# Altium footprint library LibMain.PCBLIB: 68 footprints (part 2 of 5)
Each footprint in its own frame and in the unit in brackets; x right, y up, seen from the top. Pads: shape width x height; smd on the part's side, far side on the other; paste and mask are expansions set on the pad; w line width, h text height; cw(c..) or ccw(c..) is an arc to the next point about the centre after c.
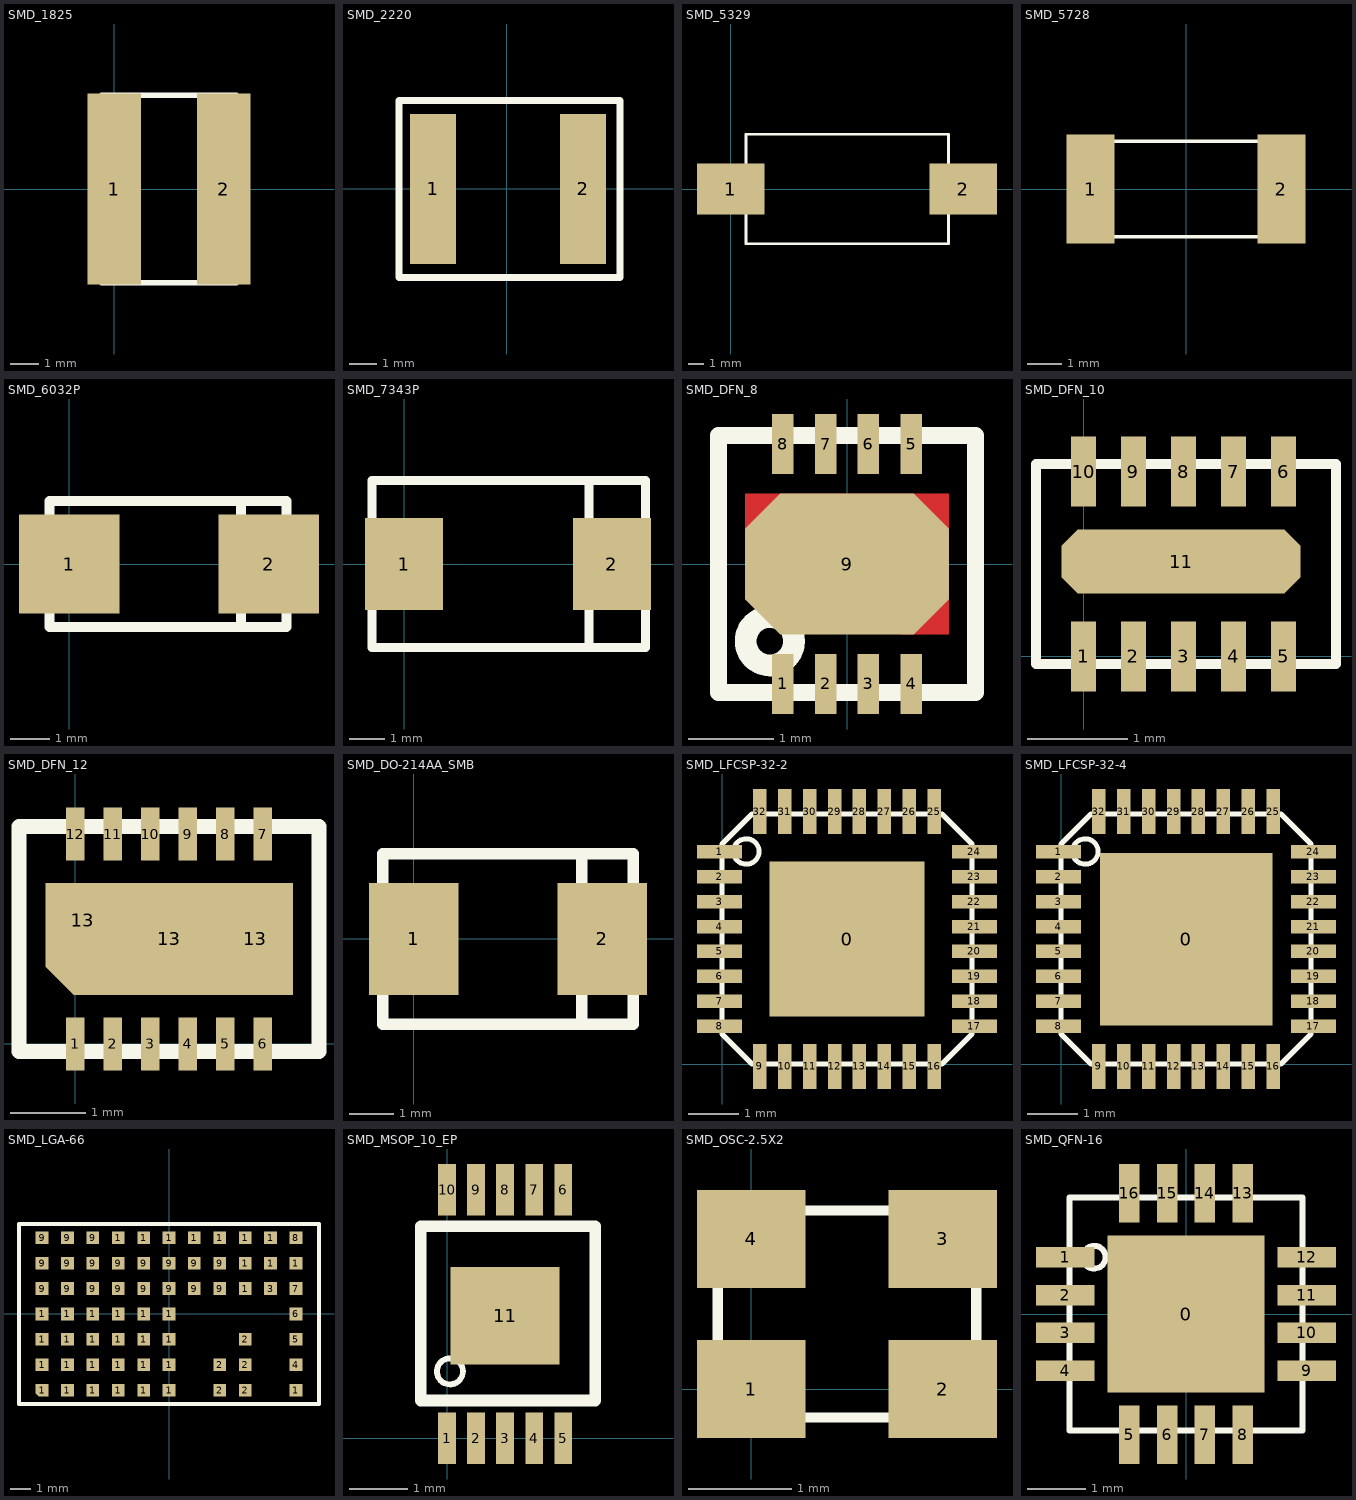
[diagram p1: the footprints below, top view; thin cyan lines are the x and y axes]

## SMD_1825 [mm] "SMD_1825"
height 2.54
pads (2):
  rect 1.9x6.8 smd: 1(0,0) 2(3.9,0)
Top Overlay:
  lines w0.2: -0.45,-3.35 4.35,-3.35 4.35,3.35 -0.45,3.35 -0.45,-3.35

## SMD_2220 [mm] "SMD_2220"
height 1.5
pads (2):
  rect 1.7x5.5 smd: 1(-2.7,0) 2(2.8,0)
Top Overlay:
  lines w0.254: -3.95,-3.25 -3.95,3.25 4.15,3.25 4.15,-3.25 -3.95,-3.25

## SMD_5329 [mm] "SMD_5329"
height 6.8
pads (2):
  rect 4.5x3.4 smd: 1(0,0) 2(15.5,0)
Top Overlay:
  lines w0.2: 1,-3.65 1,3.65 14.5,3.65 14.5,-3.65 1,-3.65

## SMD_5728 [mm] "SMD_5728"
pads (2):
  rect 1.4x3.2 smd: 1(-2.8,0) 2(2.8,0)
Top Overlay:
  lines w0.1: -2.9,-1.4 -2.9,1.4 0,1.4 2.9,1.4 2.9,-1.4 -2.8,-1.4 -2.9,-1.4

## SMD_6032P [mm] "SMD_6032P"
pads (2):
  rect 2.55x2.5 smd: 1(0,0) 2(5.05,0)
Top Overlay:
  lines w0.254: 4.35,-1.6 4.35,1.6 ; -0.5,-1.6 5.5,-1.6 5.5,1.6 -0.5,1.6 -0.5,-1.6

## SMD_7343P [mm] "SMD_7343P"
height 3.1
pads (2):
  rect 2.2x2.6 smd: 1(0,0) 2(5.85,0)
Top Overlay:
  lines w0.254: 5.2,-2.35 5.2,2.35 ; -0.9,-2.35 6.8,-2.35 6.8,2.35 -0.9,2.35 -0.9,-2.35

## SMD_DFN_8 [mm] "SMD_DFN_8"
height 0.75
pads (9):
  rect 0.25x0.7 smd: 1(-0.75,-1.4) 2(-0.25,-1.4) 3(0.25,-1.4) 4(0.75,-1.4) 5(0.75,1.4) 6(0.25,1.4) 7(-0.25,1.4) 8(-0.75,1.4)
  oct 2.38x1.65 smd: 9(0,0)
Top Layer:
  rectangle: 0.635,-0.825 1.19,0.205
  rectangle: -1.19,-0.31 1.19,0.825
Top Overlay:
  circle w0.254: c-0.9,-0.9 r0.283
  lines w0.2: -1.5,-1.5 1.5,-1.5 1.5,1.5 -1.5,1.5 -1.5,-1.5

## SMD_DFN_10 [mm] "SMD_DFN_10"
pads (11):
  rect 0.25x0.7 smd: 1(0,0) 2(0.5,0) 3(1,0) 4(1.5,0) 5(2,0) 6(2,1.85) 7(1.5,1.85) 8(1,1.85) 9(0.5,1.85) 10(0,1.85)
  oct 2.39x0.64 smd: 11(0.975,0.95)
Top Overlay:
  lines w0.1: -0.475,-0.075 -0.475,1.925 2.525,1.925 2.525,-0.075 -0.475,-0.075

## SMD_DFN_12 [mm]
pads (15):
  rect 0.25x0.7 smd: 1(0,0) 2(0.5,0) 3(1,0) 4(1.5,0) 5(2,0) 6(2.5,0) 7(2.5,2.8) 8(2,2.8) 9(1.5,2.8) 10(1,2.8) 11(0.5,2.8) 12(0,2.8)
  rect 1x1 smd: 13(0.1,1.65)
  oct 3.3x1.5 smd: 13(1.25,1.4)
  rect 1x1.5 smd: 13(2.4,1.4)
Top Overlay:
  lines w0.2: -0.75,-0.1 3.25,-0.1 3.25,2.9 -0.75,2.9 -0.75,-0.1

## SMD_DO-214AA_SMB [mm] "SMD_DO-214AA_SMB"
height 2.4
pads (2):
  rect 2x2.5 smd: 1(0,0) 2(4.2,0)
Top Overlay:
  lines w0.254: 3.75,-1.9 3.75,1.9 ; -0.7,-1.9 4.9,-1.9 4.9,1.9 -0.7,1.9 -0.7,-1.9

## SMD_LFCSP-32-2 [mm] "SMD_LFCSP-32-2"
pads (33):
  rect 3.1x3.1 smd paste-0.05: 0(2.5,2.5)
  rect 0.9x0.27 smd paste-0.025 mask+0.05: 1(-0.05,4.25) 2(-0.05,3.75) 3(-0.05,3.25) 4(-0.05,2.75) 5(-0.05,2.25) 6(-0.05,1.75) 7(-0.05,1.25) 8(-0.05,0.75) 17(5.05,0.75) 18(5.05,1.25) 19(5.05,1.75) 20(5.05,2.25) 21(5.05,2.75) 22(5.05,3.25) 23(5.05,3.75) 24(5.05,4.25)
  rect 0.27x0.9 smd paste-0.025 mask+0.05: 9(0.75,-0.05) 10(1.25,-0.05) 11(1.75,-0.05) 12(2.25,-0.05) 13(2.75,-0.05) 14(3.25,-0.05) 15(3.75,-0.05) 16(4.25,-0.05) 25(4.25,5.05) 26(3.75,5.05) 27(3.25,5.05) 28(2.75,5.05) 29(2.25,5.05) 30(1.75,5.05) 31(1.25,5.05) 32(0.75,5.05)
Top Overlay:
  circle w0.1: c0.485,4.25 r0.255
  lines w0.1: 0,0.6 0,4.4 0.6,5 4.4,5 5,4.4 5,0.6 4.4,0 0.6,0 0,0.6

## SMD_LFCSP-32-4 [mm] "SMD_LFCSP-32-4"
pads (33):
  rect 3.45x3.45 smd paste-0.06: 0(2.5,2.5)
  rect 0.9x0.27 smd paste-0.025 mask+0.05: 1(-0.05,4.25) 2(-0.05,3.75) 3(-0.05,3.25) 4(-0.05,2.75) 5(-0.05,2.25) 6(-0.05,1.75) 7(-0.05,1.25) 8(-0.05,0.75) 17(5.05,0.75) 18(5.05,1.25) 19(5.05,1.75) 20(5.05,2.25) 21(5.05,2.75) 22(5.05,3.25) 23(5.05,3.75) 24(5.05,4.25)
  rect 0.27x0.9 smd paste-0.025 mask+0.05: 9(0.75,-0.05) 10(1.25,-0.05) 11(1.75,-0.05) 12(2.25,-0.05) 13(2.75,-0.05) 14(3.25,-0.05) 15(3.75,-0.05) 16(4.25,-0.05) 25(4.25,5.05) 26(3.75,5.05) 27(3.25,5.05) 28(2.75,5.05) 29(2.25,5.05) 30(1.75,5.05) 31(1.25,5.05) 32(0.75,5.05)
Top Overlay:
  circle w0.1: c0.485,4.25 r0.255
  lines w0.1: 0,0.6 0.6,0 4.4,0 5,0.6 5,4.4 4.4,5 0.6,5 0,4.4 0,0.6

## SMD_LGA-66 [mm] "SMD LGA66 package"
height 4.32
pads (68):
  oct 0.635x0.635 smd: 1(-6.35,-3.81)
  rect 0.635x0.635 smd: 1(-6.35,-2.54) 1(-6.35,-1.27) 1(-6.35,0) 1(-5.08,-3.81) 1(-5.08,-2.54) 1(-5.08,-1.27) 1(-5.08,0) 1(-3.81,-3.81) 1(-3.81,-2.54) 1(-3.81,-1.27) 1(-3.81,0) 1(-2.54,-3.81) 1(-2.54,-2.54) 1(-2.54,-1.27) 1(-2.54,0) 1(-2.54,3.81) 1(-1.27,-3.81) 1(-1.27,-2.54) 1(-1.27,-1.27) 1(-1.27,0) 1(-1.27,3.81) 1(0,-3.81) 1(0,-2.54) 1(0,-1.27) 1(0,0) 1(0,3.81) 1(1.27,3.81) 1(2.54,3.81) 1(3.81,1.27) 1(3.81,2.54) 1(3.81,3.81) 1(5.08,2.54) 1(5.08,3.81) 1(6.35,-3.81) 1(6.35,2.54) 2(2.54,-3.81) 2(2.54,-2.54) 2(3.81,-3.81) 2(3.81,-2.54) 2(3.81,-1.27) 3(5.08,1.27) 4(6.35,-2.54) 5(6.35,-1.27) 6(6.35,0) 7(6.35,1.27) 8(6.35,3.81) 9(-6.35,1.27) 9(-6.35,2.54) 9(-6.35,3.81) 9(-5.08,1.27) 9(-5.08,2.54) 9(-5.08,3.81) 9(-3.81,1.27) 9(-3.81,2.54) 9(-3.81,3.81) 9(-2.54,1.27) 9(-2.54,2.54) 9(-1.27,1.27) 9(-1.27,2.54) 9(0,1.27) 9(0,2.54) 9(1.27,1.27) 9(1.27,2.54) 9(2.54,1.27) 9(2.54,2.54)
  rect 0.635x0.2 smd: 1(-6.349,-3.593)
  rect 0.2x0.635 smd: 1(-6.132,-3.811)
Top Overlay:
  lines w0.2: -7.5,-4.5 -7.5,4.5 7.5,4.5 7.5,-4.5 -7.5,-4.5

## SMD_MSOP_10_EP [mm] "SMD_MSOP_10_EP"
height 1.1
pads (11):
  rect 0.305x0.889 smd: 1(0,0) 2(0.5,0) 3(1,0) 4(1.5,0) 5(2,0) 6(2,4.277) 7(1.5,4.277) 8(1,4.277) 9(0.5,4.277) 10(0,4.277)
  rect 1.88x1.68 smd: 11(1,2.107)
Top Overlay:
  circle w0.1: c0.05,1.15 r0.224
  lines w0.2: -0.45,0.65 -0.45,3.65 2.55,3.65 2.55,0.65 -0.45,0.65

## SMD_OSC-2.5X2 [mm] "SMD_OSC-2.5X2"
pads (4):
  rect 1.05x0.95 smd: 1(0,0) 2(1.85,0) 3(1.85,1.45) 4(0,1.45)
Top Overlay:
  lines w0.1: -0.325,0.3 0.275,0.3 0.275,-0.275 ; -0.325,-0.275 2.175,-0.275 2.175,1.725 -0.325,1.725 -0.325,-0.275

## SMD_QFN-16 [mm] "SMD_QFN-16"
pads (17):
  rect 2.7x2.7 smd paste-0.025 mask+0.07: 0(0,0)
  rect 1x0.35 smd paste-0.025 mask+0.07: 1(-2.075,0.975) 2(-2.075,0.325) 3(-2.075,-0.325) 4(-2.075,-0.975) 9(2.075,-0.975) 10(2.075,-0.325) 11(2.075,0.325) 12(2.075,0.975)
  rect 0.35x1 smd paste-0.025 mask+0.07: 5(-0.975,-2.075) 6(-0.325,-2.075) 7(0.325,-2.075) 8(0.975,-2.075) 13(0.975,2.075) 14(0.325,2.075) 15(-0.325,2.075) 16(-0.975,2.075)
Top Overlay:
  circle w0.1: c-1.575,0.975 r0.195
  lines w0.1: -2,-2 2,-2 2,2 -2,2 -2,-2